# EAGLE library part RJ11 (library captain-slow)
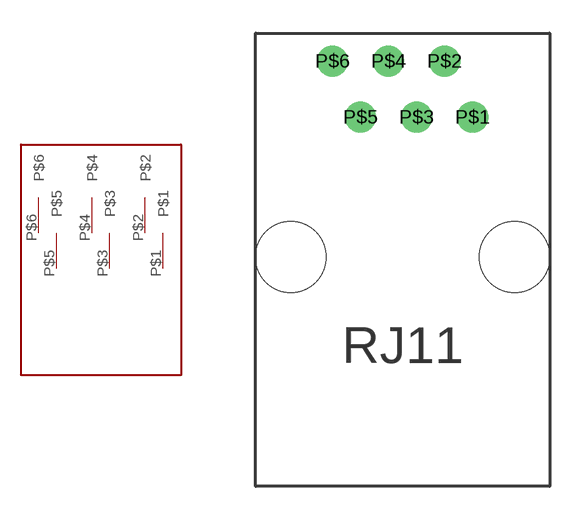
[diagram p1: symbol with the pads of RJ11; footprint RJ11]

Designator prefix -

## RJ11  [RJ11]
P$1  P$1
P$2  P$2
P$3  P$3
P$4  P$4
P$5  P$5
P$6  P$6

## Footprint RJ11 (pad centres in mm)
drill 0.9: P$1 3.175,6.35; P$2 1.905,8.89; P$3 0.635,6.35; P$4 -0.635,8.89; P$5 -1.905,6.35; P$6 -3.175,8.89
hole 3.2 at -5.08,0
hole 3.2 at 5.08,0